# EAGLE library part MC14504BDR2G (library MC14504BDR2G)
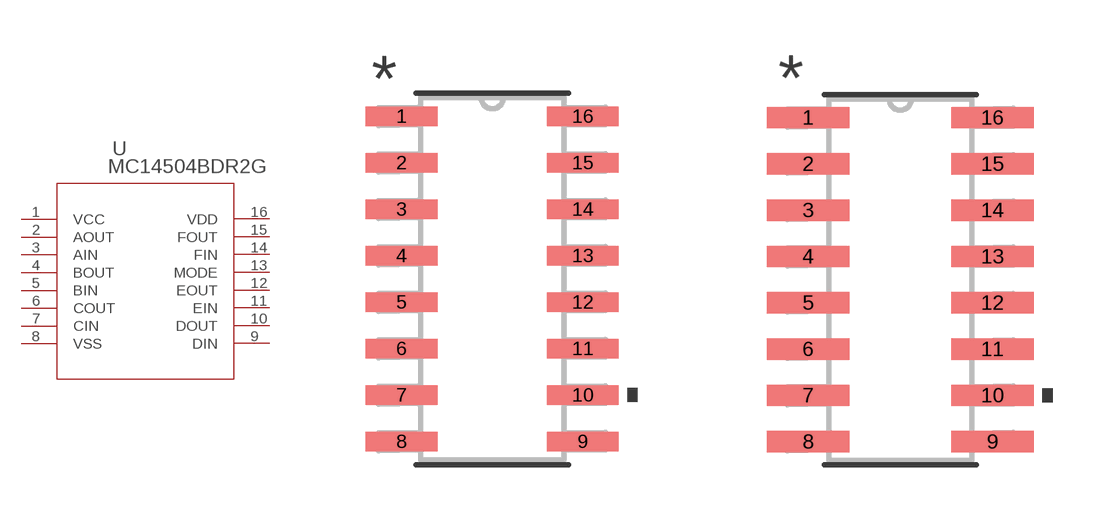
[diagram p0: symbol with the pads of SOIC-16; footprints SOIC-16, SOIC-16-M]

Designator prefix U

## MC14504BDR2G (MANUFACTURER_PART_NUMBER: MC14504BDR2G; VENDOR: ON Semiconductor)  [SOIC-16]
1  VCC  pwr
2  AOUT  out
3  AIN  in
4  BOUT  out
5  BIN  in
6  COUT  out
7  CIN  in
8  VSS  pwr
9  DIN  in
10  DOUT  out
11  EIN  in
12  EOUT  out
13  MODE  pas
14  FIN  in
15  FOUT  out
16  VDD  pwr

## MC14504BDR2GSOIC-16-M (MANUFACTURER_PART_NUMBER: MC14504BDR2G; VENDOR: ON Semiconductor)  [SOIC-16-M]
Pads as for SOIC-16

## MC14504BDR2GSOIC-16-L (MANUFACTURER_PART_NUMBER: MC14504BDR2G; VENDOR: ON Semiconductor)  [SOIC-16-L]
Pads as for SOIC-16

## Footprint SOIC-16 (pad centres in mm)
smd 1.956 x 0.533: 1 -2.477,4.445; 2 -2.477,3.175; 3 -2.477,1.905; 4 -2.477,0.635; 5 -2.477,-0.635; 6 -2.477,-1.905; 7 -2.477,-3.175; 8 -2.477,-4.445; 9 2.477,-4.445; 10 2.477,-3.175; 11 2.477,-1.905; 12 2.477,-0.635; 13 2.477,0.635; 14 2.477,1.905; 15 2.477,3.175; 16 2.477,4.445

## Footprint SOIC-16-M (pad centres in mm)
smd 2.261 x 0.584: 1 -2.527,4.445; 2 -2.527,3.175; 3 -2.527,1.905; 4 -2.527,0.635; 5 -2.527,-0.635; 6 -2.527,-1.905; 7 -2.527,-3.175; 8 -2.527,-4.445; 9 2.527,-4.445; 10 2.527,-3.175; 11 2.527,-1.905; 12 2.527,-0.635; 13 2.527,0.635; 14 2.527,1.905; 15 2.527,3.175; 16 2.527,4.445

## Footprint SOIC-16-L (pad centres in mm)
smd 1.651 x 0.483: 1 -2.426,4.445; 2 -2.426,3.175; 3 -2.426,1.905; 4 -2.426,0.635; 5 -2.426,-0.635; 6 -2.426,-1.905; 7 -2.426,-3.175; 8 -2.426,-4.445; 9 2.426,-4.445; 10 2.426,-3.175; 11 2.426,-1.905; 12 2.426,-0.635; 13 2.426,0.635; 14 2.426,1.905; 15 2.426,3.175; 16 2.426,4.445